# EAGLE library part JST_PHD_2MM_84PIN (library GadgetFactory_v1)
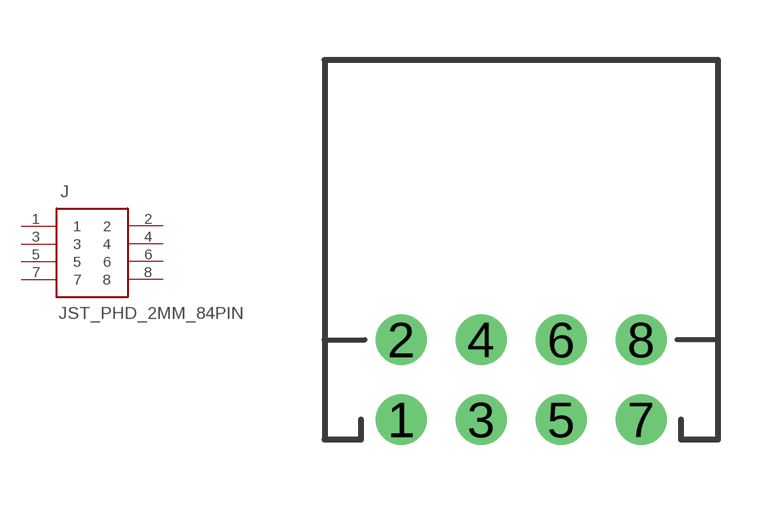
[diagram p37: symbol with the pads of JST_PHD_2MM_4PIN_RA; footprint JST_PHD_2MM_4PIN_RA]

Designator prefix J

## JST_PHD_2MM_84PIN-RA  [JST_PHD_2MM_4PIN_RA]
1  1  pas
2  2  pas
3  3  pas
4  4  pas
5  5  pas
6  6  pas
7  7  pas
8  8  pas

## Footprint JST_PHD_2MM_4PIN_RA (pad centres in mm)
drill 0.7 pad 1.27: 1 -3,-2; 2 -3,0; 3 -1,-2; 4 -1,0; 5 1,-2; 6 1,0; 7 3,-2; 8 3,0